# Altium footprint library PCB - LEADLESS - DFN - DIODES U-DFN2020-6F.PCBLIB: 1 footprints
Each footprint in its own frame and in the unit in brackets; x right, y up, seen from the top. Pads: shape width x height; smd on the part's side, far side on the other; paste and mask are expansions set on the pad; w line width, h text height; cw(c..) or ccw(c..) is an arc to the next point about the centre after c.
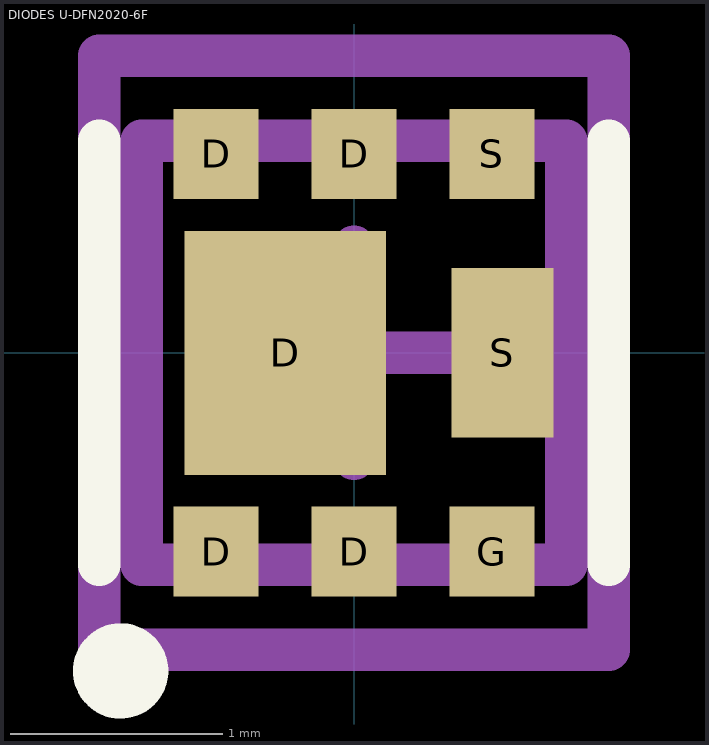
[diagram p0: the footprint, top view; thin cyan lines are the x and y axes]

## DIODES U-DFN2020-6F [mm] "2x2MM UDFN FET"
height 0.63
pads (8):
  rect 0.4x0.425 smd paste-2539.97: D(-0.65,-0.937) D(-0.65,0.937) D(0,-0.937) D(0,0.937) G(0.65,-0.937) S(0.65,0.937)
  rect 0.95x1.15 smd paste-2539.97: D(-0.325,0)
  rect 0.48x0.8 smd paste-2539.97: S(0.7,0)
Top Overlay:
  circle w0.25: c-1.1,-1.5 r0.1
  lines w0.2: -1.2,-1 -1.2,1 ; 1.2,-1 1.2,1
Top Component Center:
  lines w0.2: -0.5,0 0.5,0 ; 0,-0.5 0,0.5
Top Component Outline:
  lines w0.2: -1,-1 1,-1 1,1 -1,1 -1,-1
Top Courtyard (Mech15):
  lines w0.2: -1.2,-1.4 1.2,-1.4 1.2,1.4 -1.2,1.4 -1.2,-1.4
3D body "DIODES - U-DFN2020-6F.step": height 0.63, standoff -0.01, extent -1,-1.01 1,1.01